# EAGLE library part L3GD20 (library SolarJackets_Common)
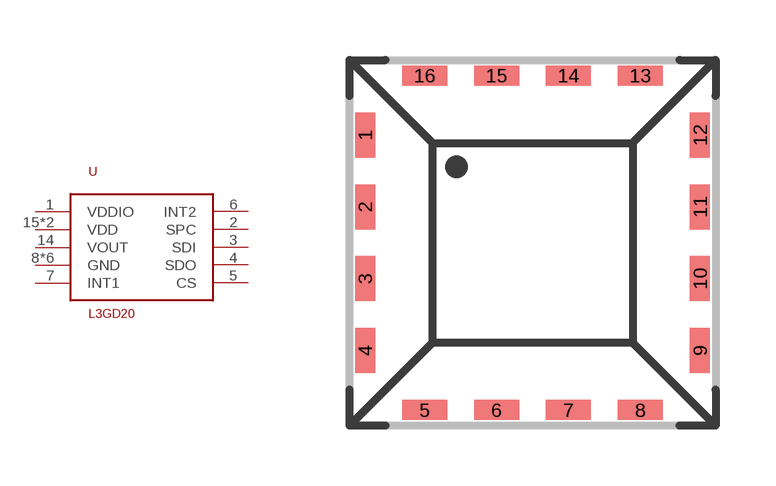
[diagram p16: symbol with the pads of LGA16; footprint LGA16]

Designator prefix -

## L3GD20  [LGA16]
1  VDDIO
2  SPC
3  SDI
4  SDO
5  CS
6  INT2
7  INT1
8  GND
9  GND
10  GND
11  GND
12  GND
13  GND
14  VOUT
15  VDD
16  VDD

## Footprint LGA16 (pad centres in mm)
16-Terminal Land Grid Array [LGA] (CC-16-2) Source: http://www.analog.com/static/imported-files/data_sheets/ADIS16209.pdf
smd 0.5 x 1.127: 1 -4.186,2.696; 2 -4.187,0.898; 3 -4.187,-0.898; 4 -4.187,-2.696; 9 4.186,-2.696; 10 4.187,-0.898; 11 4.187,0.898; 12 4.187,2.696
smd 1.127 x 0.5: 5 -2.696,-4.186; 6 -0.898,-4.187; 7 0.898,-4.187; 8 2.696,-4.187; 13 2.696,4.186; 14 0.898,4.187; 15 -0.898,4.187; 16 -2.696,4.187